# EAGLE library part MAX8903 (library custom)
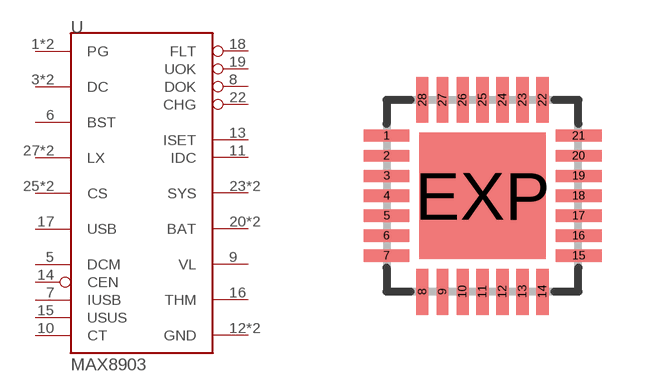
[diagram p9: symbol with the pads of QFN28-ET; footprint QFN28-ET]

Designator prefix -

## MAX8903  [QFN28-ET]
1  PG
2  PG
3  DC
4  DC
5  DCM
6  BST
7  IUSB
8  DOK
9  VL
10  CT
11  IDC
12  GND
13  ISET
14  CEN
15  USUS
16  THM
17  USB
18  FLT
19  UOK
20  BAT
21  BAT
22  CHG
23  SYS
24  SYS
25  CS
26  CS
27  LX
28  LX
EXP  GND

## Footprint QFN28-ET (pad centres in mm)
smd 1.15 x 0.3: 1 -2.4,1.5; 2 -2.4,1; 3 -2.4,0.5; 4 -2.4,0; 5 -2.4,-0.5; 6 -2.4,-1; 7 -2.4,-1.5; 15 2.4,-1.5; 16 2.4,-1; 17 2.4,-0.5; 18 2.4,0; 19 2.4,0.5; 20 2.4,1; 21 2.4,1.5
smd 0.3 x 1.15: 8 -1.5,-2.4; 9 -1,-2.4; 10 -0.5,-2.4; 11 0,-2.4; 12 0.5,-2.4; 13 1,-2.4; 14 1.5,-2.4; 22 1.5,2.4; 23 1,2.4; 24 0.5,2.4; 25 0,2.4; 26 -0.5,2.4; 27 -1,2.4; 28 -1.5,2.4
smd 3.15 x 3.15: EXP 0,0